# Altium schematic symbol library 3588-20.SchLib: 1 symbol
Pins are listed as number, name and electrical type; pins without a type are passive.

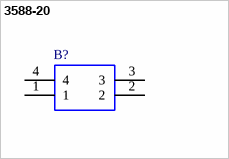
[diagram p0: symbol 3588-20]

## 3588-20
designator B?
Fuse Holder SMT FUSE SOCKET (YELLOW); Manufacturer_Name: Keystone Electronics; Geometry.Height: 8.37mm; Mouser Part Number: 534-3588-20; Mouser Price/Stock: https://www.mouser.co.uk/ProductDetail/Keystone-Electronics/3588-20?qs=u16ybLDytRaA1YVeN79oxg%3D%3D; Manufacturer_Part_Number: 3588-20; Datasheet Link: http://www.keystoneelectronics.net/ENG._DEPT/WEB_ORACLE/PDF/PDF%20CAT%20NO%20DRAWINGS/3000-3999/3588-20.PDF
footprint 358820
pins: 1, 2, 3, 4